# EAGLE library part ATTINY48/88-TQFP (library Lectrobox)
Atmel ATTINY microcontroller -- ATTINY48 and ATTINY88
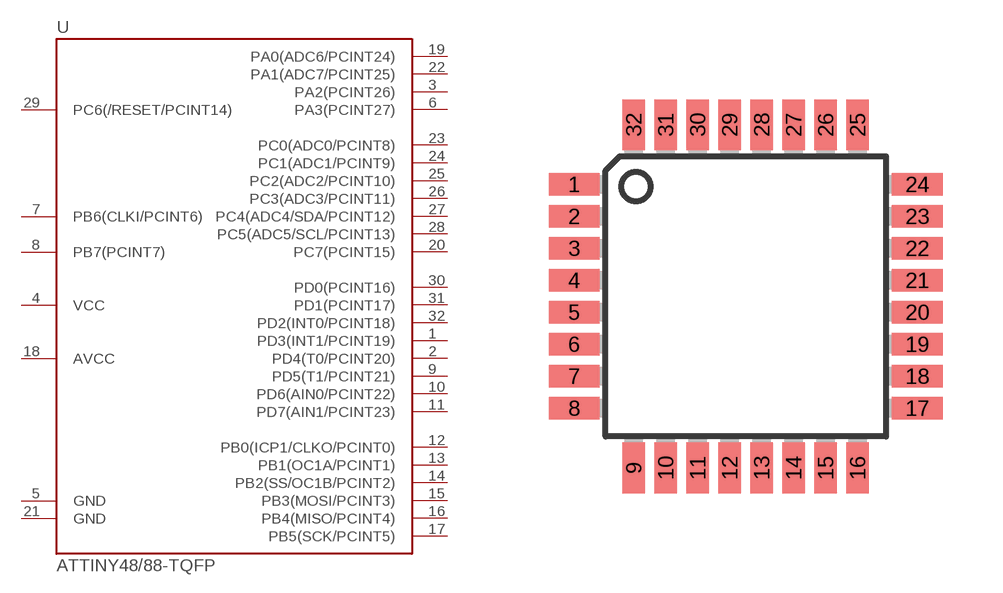
[diagram p3: symbol with the pads of TQFP32-08; footprint TQFP32-08]

Designator prefix -

## ATTINY48/88-TQFP  [TQFP32-08]
1  PD3(INT1/PCINT19)
2  PD4(T0/PCINT20)
3  PA2(PCINT26)
4  VCC  pwr
5  GND  pwr
6  PA3(PCINT27)
7  PB6(CLKI/PCINT6)
8  PB7(PCINT7)
9  PD5(T1/PCINT21)
10  PD6(AIN0/PCINT22)
11  PD7(AIN1/PCINT23)
12  PB0(ICP1/CLKO/PCINT0)
13  PB1(OC1A/PCINT1)
14  PB2(SS/OC1B/PCINT2)
15  PB3(MOSI/PCINT3)
16  PB4(MISO/PCINT4)
17  PB5(SCK/PCINT5)
18  AVCC  pas
19  PA0(ADC6/PCINT24)
20  PC7(PCINT15)
21  GND  pwr
22  PA1(ADC7/PCINT25)
23  PC0(ADC0/PCINT8)
24  PC1(ADC1/PCINT9)
25  PC2(ADC2/PCINT10)
26  PC3(ADC3/PCINT11)
27  PC4(ADC4/SDA/PCINT12)
28  PC5(ADC5/SCL/PCINT13)
29  PC6(/RESET/PCINT14)
30  PD0(PCINT16)
31  PD1(PCINT17)
32  PD2(INT0/PCINT18)

## Footprint TQFP32-08 (pad centres in mm)
smd 1.27 x 0.559: 1 -4.293,2.8; 2 -4.293,2; 3 -4.293,1.2; 4 -4.293,0.4; 5 -4.293,-0.4; 6 -4.293,-1.2; 7 -4.293,-2; 8 -4.293,-2.8; 17 4.293,-2.8; 18 4.293,-2; 19 4.293,-1.2; 20 4.293,-0.4; 21 4.293,0.4; 22 4.293,1.2; 23 4.293,2; 24 4.293,2.8
smd 0.559 x 1.27: 9 -2.8,-4.293; 10 -2,-4.293; 11 -1.2,-4.293; 12 -0.4,-4.293; 13 0.4,-4.293; 14 1.2,-4.293; 15 2,-4.293; 16 2.8,-4.293; 25 2.8,4.293; 26 2,4.293; 27 1.2,4.293; 28 0.4,4.293; 29 -0.4,4.293; 30 -1.2,4.293; 31 -2,4.293; 32 -2.8,4.293